# EAGLE library part TRHUI393-2X12 (library transformatory)
Plochý transformátor 2x12V
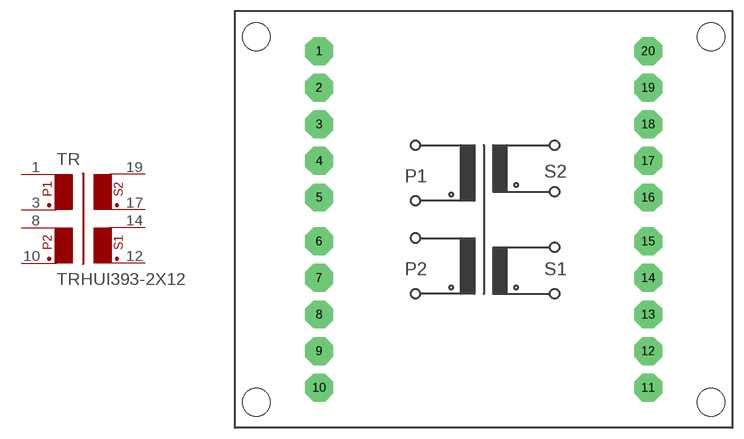
[diagram p62: symbol with the pads of TRHUI393; footprint TRHUI393]

Designator prefix TR

## TRHUI393-2X12  [TRHUI393]
1  1  pas
3  2  pas
8  3  pas
10  4  pas
12  5  pas
14  6  pas
17  7  pas
19  8  pas

## Footprint TRHUI393 (pad centres in mm)
drill 1.194 pad 3.81 octagon: 1 -22.504,23.012; 2 -22.504,18.012; 3 -22.504,13.012; 4 -22.504,8.012; 5 -22.504,3.012; 6 -22.504,-2.988; 7 -22.504,-7.988; 8 -22.504,-12.988; 9 -22.504,-17.988; 10 -22.504,-22.988; 11 22.496,-22.988; 12 22.496,-17.988; 13 22.496,-12.988; 14 22.496,-7.988; 15 22.496,-2.988; 16 22.496,3.012; 17 22.496,8.012; 18 22.496,13.012; 19 22.496,18.012; 20 22.496,23.012
hole 3.81 at -31.1,25
hole 3.81 at -31.1,-25
hole 3.81 at 31.1,-25
hole 3.81 at 31.1,25